# EAGLE library part ICE40LP1K-QN84 (library ICE40LP1K-QN84)
LP Series 1280 LUTs 95 I/O 64 kBit RAM 1.2 V Surface Mount FPGA - QFN-84 Check prices <https://pricing.snapeda.com/parts/ICE40LP1K-QN84/Lattice%20Semiconductor/view-part?ref=eda>
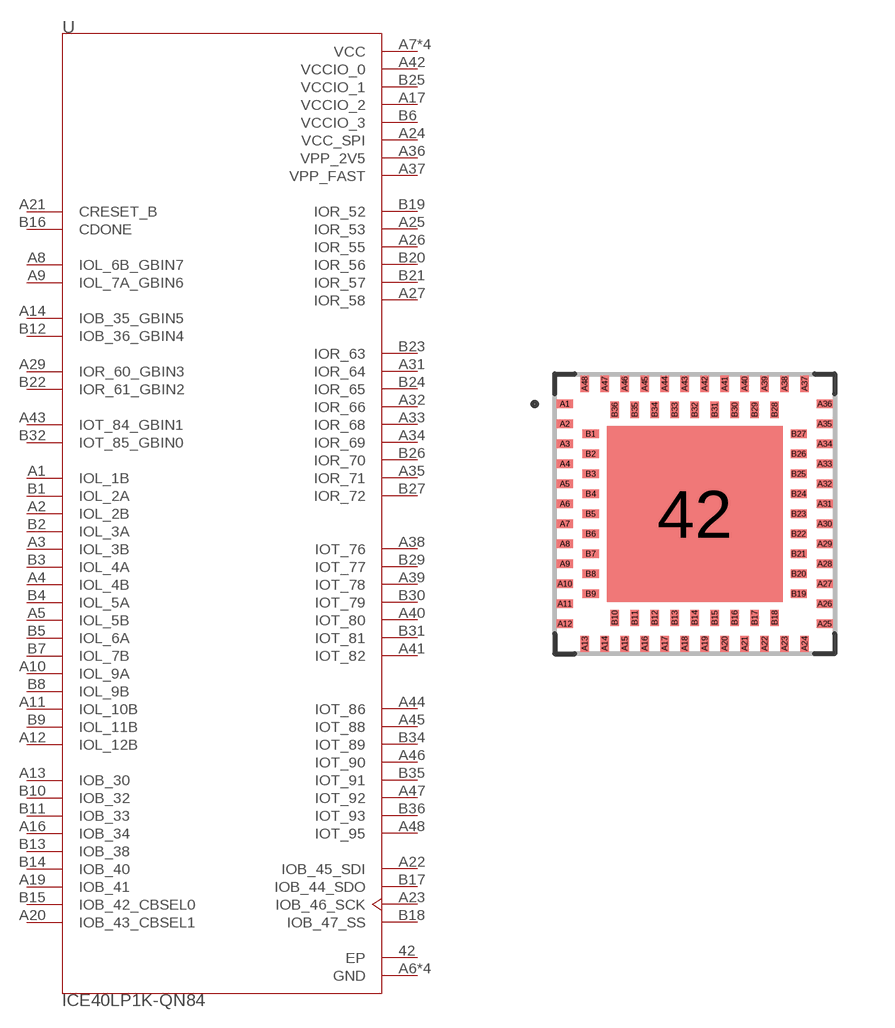
[diagram p0: symbol with the pads of LATTICE_ICE40LP1K-QN84; footprint LATTICE_ICE40LP1K-QN84]

Designator prefix U

## ICE40LP1K-QN84 (Availability: In Stock; Description: iCE40™ LP Field Programmable Gate Array (FPGA) IC 67 65536 1280 84-VFQFN Dual Rows, Exposed Pad; MF: Lattice Semiconductor; MP: ICE40LP1K-QN84; Package: QFN-84 Lattice Semiconductor; Price: None; Purchase-URL: https://pricing.snapeda.com/search/part/ICE40LP1K-QN84/?ref=eda)  [LATTICE_ICE40LP1K-QN84]
42  EP  pwr
A1  IOL_1B
A2  IOL_2B
A3  IOL_3B
A4  IOL_4B
A5  IOL_5B
A6  GND  pwr
A7  VCC  pwr
A8  IOL_6B_GBIN7  in
A9  IOL_7A_GBIN6  in
A10  IOL_9A
A11  IOL_10B
A12  IOL_12B
A13  IOB_30
A14  IOB_35_GBIN5  in
A15  VCC  pwr
A16  IOB_34
A17  VCCIO_2  pwr
A18  GND  pwr
A19  IOB_41
A20  IOB_43_CBSEL1
A21  CRESET_B  in
A22  IOB_45_SDI
A23  IOB_46_SCK
A24  VCC_SPI  pwr
A25  IOR_53
A26  IOR_55
A27  IOR_58
A28  VCC  pwr
A29  IOR_60_GBIN3  in
A30  GND  pwr
A31  IOR_64
A32  IOR_66
A33  IOR_68
A34  IOR_69
A35  IOR_71
A36  VPP_2V5  pwr
A37  VPP_FAST  pwr
A38  IOT_76
A39  IOT_78
A40  IOT_80
A41  IOT_82
A42  VCCIO_0  pwr
A43  IOT_84_GBIN1  in
A44  IOT_86
A45  IOT_88
A46  IOT_90
A47  IOT_92
A48  IOT_95
B1  IOL_2A
B2  IOL_3A
B3  IOL_4A
B4  IOL_5A
B5  IOL_6A
B6  VCCIO_3  pwr
B7  IOL_7B
B8  IOL_9B
B9  IOL_11B
B10  IOB_32
B11  IOB_33
B12  IOB_36_GBIN4  in
B13  IOB_38
B14  IOB_40
B15  IOB_42_CBSEL0
B16  CDONE  in
B17  IOB_44_SDO
B18  IOB_47_SS
B19  IOR_52
B20  IOR_56
B21  IOR_57
B22  IOR_61_GBIN2  in
B23  IOR_63
B24  IOR_65
B25  VCCIO_1  pwr
B26  IOR_70
B27  IOR_72
B28  VCC  pwr
B29  IOT_77
B30  IOT_79
B31  IOT_81
B32  IOT_85_GBIN0  in
B33  GND  pwr
B34  IOT_89
B35  IOT_91
B36  IOT_93

## Footprint LATTICE_ICE40LP1K-QN84 (pad centres in mm)
smd 4.4 x 4.4: 42 0,0
smd 0.4 x 0.22: A1 -3.25,2.75; A2 -3.25,2.25; A3 -3.25,1.75; A4 -3.25,1.25; A5 -3.25,0.75; A6 -3.25,0.25; A7 -3.25,-0.25; A8 -3.25,-0.75; A9 -3.25,-1.25; A10 -3.25,-1.75; A11 -3.25,-2.25; A12 -3.25,-2.75; A25 3.25,-2.75; A26 3.25,-2.25; A27 3.25,-1.75; A28 3.25,-1.25; A29 3.25,-0.75; A30 3.25,-0.25; A31 3.25,0.25; A32 3.25,0.75; A33 3.25,1.25; A34 3.25,1.75; A35 3.25,2.25; A36 3.25,2.75; B1 -2.6,2; B2 -2.6,1.5; B3 -2.6,1; B4 -2.6,0.5; B5 -2.6,0; B6 -2.6,-0.5; B7 -2.6,-1; B8 -2.6,-1.5; B9 -2.6,-2; B19 2.6,-2; B20 2.6,-1.5; B21 2.6,-1; B22 2.6,-0.5; B23 2.6,0; B24 2.6,0.5; B25 2.6,1; B26 2.6,1.5; B27 2.6,2
smd 0.22 x 0.4: A13 -2.75,-3.25; A14 -2.25,-3.25; A15 -1.75,-3.25; A16 -1.25,-3.25; A17 -0.75,-3.25; A18 -0.25,-3.25; A19 0.25,-3.25; A20 0.75,-3.25; A21 1.25,-3.25; A22 1.75,-3.25; A23 2.25,-3.25; A24 2.75,-3.25; A37 2.75,3.25; A38 2.25,3.25; A39 1.75,3.25; A40 1.25,3.25; A41 0.75,3.25; A42 0.25,3.25; A43 -0.25,3.25; A44 -0.75,3.25; A45 -1.25,3.25; A46 -1.75,3.25; A47 -2.25,3.25; A48 -2.75,3.25; B10 -2,-2.6; B11 -1.5,-2.6; B12 -1,-2.6; B13 -0.5,-2.6; B14 0,-2.6; B15 0.5,-2.6; B16 1,-2.6; B17 1.5,-2.6; B18 2,-2.6; B28 2,2.6; B29 1.5,2.6; B30 1,2.6; B31 0.5,2.6; B32 0,2.6; B33 -0.5,2.6; B34 -1,2.6; B35 -1.5,2.6; B36 -2,2.6